# EAGLE library part APA102 (library Cytrill)
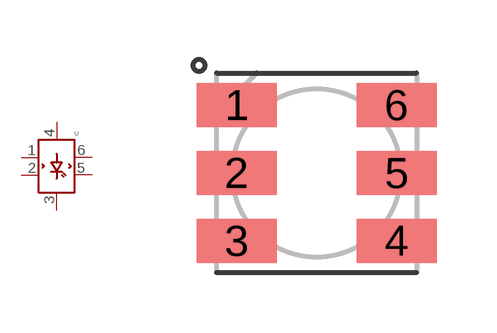
[diagram p4: symbol with the pads of RGBLED5050; footprint RGBLED5050]

Designator prefix -

## APA102  [RGBLED5050]
1  DIN  in
2  CIN  in
3  GND
4  VDD
5  COUT  out
6  DOUT  out

## Footprint RGBLED5050 (pad centres in mm)
smd 2 x 1.1: 1 -2,1.7; 2 -2,0; 3 -2,-1.7; 4 2,-1.7; 5 2,0; 6 2,1.7